# Altium footprint library PcbLib1.PcbLib: 264 footprints (part 13 of 17)
Each footprint in its own frame and in the unit in brackets; x right, y up, seen from the top. Pads: shape width x height; smd on the part's side, far side on the other; paste and mask are expansions set on the pad; w line width, h text height; cw(c..) or ccw(c..) is an arc to the next point about the centre after c.
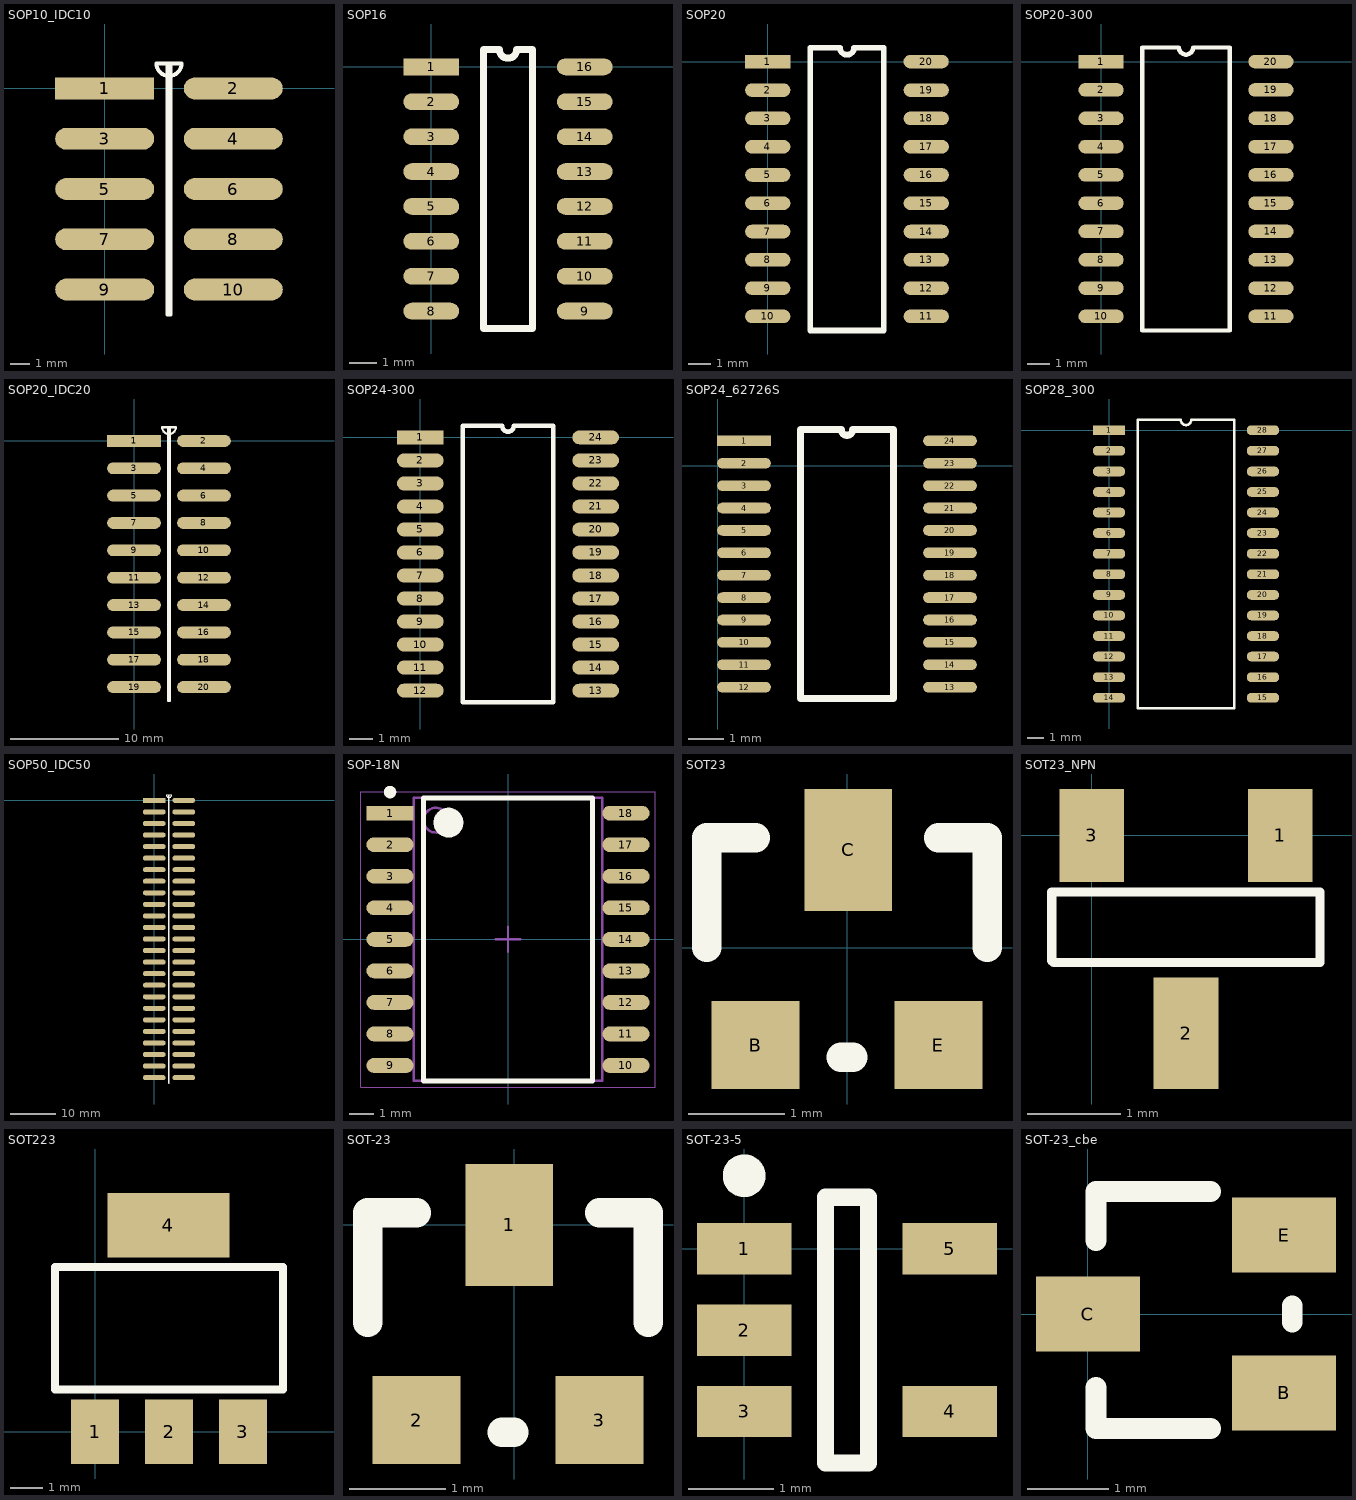
[diagram p12: the footprints below, top view; thin cyan lines are the x and y axes]

## SOP10_IDC10 [mm]
pads (10):
  rect 5x1.1 smd: 1(0,0)
  oval 5x1.1 smd: 2(6.5,0) 3(0,-2.54) 4(6.5,-2.54) 5(0,-5.08) 6(6.5,-5.08) 7(0,-7.62) 8(6.5,-7.62) 9(0,-10.16) 10(6.5,-10.16)
Top Overlay:
  lines w0.2: 2.615,1.27 ccw(c3.25,1.27) 3.885,1.27 3.165,1.27 3.165,-11.43 3.335,-11.43 3.335,1.27 2.615,1.27

## SOP16 [mil]
pads (16):
  rect 80x24 smd: 1(0,0)
  oval 80x24 smd: 2(0,-50) 3(0,-100) 4(0,-150) 5(0,-200) 6(0,-250) 7(0,-300) 8(0,-350) 9(220,-350) 10(220,-300) 11(220,-250) 12(220,-200) 13(220,-150) 14(220,-100) 15(220,-50) 16(220,0)
Top Overlay:
  lines w10: 75,-375 145,-375 145,25 122.5,25 cw(c110,25) 97.5,25 75,25 75,-375

## SOP20 [mil]
pads (20):
  rect 80x24 smd: 1(0,0)
  oval 80x24 smd: 2(0,-50) 3(0,-100) 4(0,-150) 5(0,-200) 6(0,-250) 7(0,-300) 8(0,-350) 9(0,-400) 10(0,-450) 11(280,-450) 12(280,-400) 13(280,-350) 14(280,-300) 15(280,-250) 16(280,-200) 17(280,-150) 18(280,-100) 19(280,-50) 20(279.92,0.39)
Top Overlay:
  lines w10: 75,-475 75,25 127.5,25 ccw(c140,25) 152.5,25 205,25 205,-475 75,-475

## SOP20-300 [mil]
pads (20):
  rect 80x24 smd: 1(0,0)
  oval 80x24 smd: 2(0,-50) 3(0,-100) 4(0,-150) 5(0,-200) 6(0,-250) 7(0,-300) 8(0,-350) 9(0,-400) 10(0,-450) 11(300,-450) 12(300,-400) 13(300,-350) 14(300,-300) 15(300,-250) 16(300,-200) 17(300,-150) 18(300,-100) 19(300,-50) 20(300,0)
Top Overlay:
  lines w7.87: 72.87,-475 72.87,25 137.5,25 ccw(c150,25) 162.5,25 227.13,25 227.13,-475 72.87,-475

## SOP20_IDC20 [mm]
pads (20):
  rect 5x1.1 smd: 1(0,0)
  oval 5x1.1 smd: 2(6.5,0) 3(0,-2.54) 4(6.5,-2.54) 5(0,-5.08) 6(6.5,-5.08) 7(0,-7.62) 8(6.5,-7.62) 9(0,-10.16) 10(6.5,-10.16) 11(0,-12.7) 12(6.5,-12.7) 13(0,-15.24) 14(6.5,-15.24) 15(0,-17.78) 16(6.5,-17.78) 17(0,-20.32) 18(6.5,-20.32) 19(0,-22.86) 20(6.5,-22.86)
Top Overlay:
  lines w0.2: 2.615,1.27 ccw(c3.25,1.27) 3.885,1.27 3.165,1.27 3.165,-24.13 3.335,-24.13 3.335,1.27 2.615,1.27

## SOP24-300 [mm]
pads (24):
  rect 2.032x0.6 smd: 1(0,0)
  oval 2.032x0.6 smd: 2(0,-1) 3(0,-2) 4(0,-3) 5(0,-4) 6(0,-5) 7(0,-6) 8(0,-7) 9(0,-8) 10(0,-9) 11(0,-10) 12(0,-11) 13(7.62,-11) 14(7.62,-10) 15(7.62,-9) 16(7.62,-8) 17(7.62,-7) 18(7.62,-6) 19(7.62,-5) 20(7.62,-4) 21(7.62,-3) 22(7.62,-2) 23(7.62,-1) 24(7.62,0)
Top Overlay:
  lines w0.2: 1.851,-11.5 1.851,0.5 3.56,0.5 ccw(c3.81,0.5) 4.06,0.5 5.769,0.5 5.769,-11.5 1.851,-11.5

## SOP24_62726S [mil]
pads (24):
  rect 60x12 smd: 1(29.13,27.95)
  oval 60x12 smd: 2(29.13,2.95) 3(29.13,-22.05) 4(29.13,-47.05) 5(29.13,-72.05) 6(29.13,-97.05) 7(29.13,-122.05) 8(29.13,-147.05) 9(29.13,-172.05) 10(29.13,-197.05) 11(29.13,-222.05) 12(29.13,-247.05) 13(259.13,-247.05) 14(259.13,-222.05) 15(259.13,-197.05) 16(259.13,-172.05) 17(259.13,-147.05) 18(259.13,-122.05) 19(259.13,-97.05) 20(259.13,-72.05) 21(259.13,-47.05) 22(259.13,-22.05) 23(259.13,2.95) 24(259.13,27.95)
Top Overlay:
  lines w7.87: 92.01,-259.55 92.01,40.45 137.88,40.45 ccw(c144.13,40.45) 150.38,40.45 196.26,40.45 196.26,-259.55 92.01,-259.55

## SOP28_300 [mm]
pads (28):
  rect 2x0.61 smd: 1(0,0)
  oval 2x0.61 smd: 2(0,-1.27) 3(0,-2.54) 4(0,-3.81) 5(0,-5.08) 6(0,-6.35) 7(0,-7.62) 8(0,-8.89) 9(0,-10.16) 10(0,-11.43) 11(0,-12.7) 12(0,-13.97) 13(0,-15.24) 14(0,-16.51) 15(9.5,-16.51) 16(9.5,-15.24) 17(9.5,-13.97) 18(9.5,-12.7) 19(9.5,-11.43) 20(9.5,-10.16) 21(9.5,-8.89) 22(9.5,-7.62) 23(9.5,-6.35) 24(9.5,-5.08) 25(9.5,-3.81) 26(9.5,-2.54) 27(9.5,-1.27) 28(9.5,0)
Top Overlay:
  lines w0.15: 1.785,-17.145 7.715,-17.145 7.715,0.635 5.067,0.635 cw(c4.75,0.635) 4.432,0.635 1.785,0.635 1.785,-17.145

## SOP50_IDC50 [mm]
pads (50):
  rect 5x1.1 smd: 1(0,0)
  oval 5x1.1 smd: 2(6.5,0) 3(0,-2.54) 4(6.5,-2.54) 5(0,-5.08) 6(6.5,-5.08) 7(0,-7.62) 8(6.5,-7.62) 9(0,-10.16) 10(6.5,-10.16) 11(0,-12.7) 12(6.5,-12.7) 13(0,-15.24) 14(6.5,-15.24) 15(0,-17.78) 16(6.5,-17.78) 17(0,-20.32) 18(6.5,-20.32) 19(0,-22.86) 20(6.5,-22.86) 21(0,-25.4) 22(6.5,-25.4) 23(0,-27.94) 24(6.5,-27.94) 25(0,-30.48) 26(6.5,-30.48) 27(0,-33.02) 28(6.5,-33.02) 29(0,-35.56) 30(6.5,-35.56) 31(0,-38.1) 32(6.5,-38.1) 33(0,-40.64) 34(6.5,-40.64) 35(0,-43.18) 36(6.5,-43.18) 37(0,-45.72) 38(6.5,-45.72) 39(0,-48.26) 40(6.5,-48.26) 41(0,-50.8) 42(6.5,-50.8) 43(0,-53.34) 44(6.5,-53.34) 45(0,-55.88) 46(6.5,-55.88) 47(0,-58.42) 48(6.5,-58.42) 49(0,-60.96) 50(6.5,-60.96)
Top Overlay:
  lines w0.2: 2.615,1.27 ccw(c3.25,1.27) 3.885,1.27 3.165,1.27 3.165,-62.23 3.335,-62.23 3.335,1.27 2.615,1.27

## SOP-18N [mm] "SOIC, 18-Leads, Body 11.55x7.50mm, Pitch 1.27mm, IPC Medium Density"
height 2.65
pads (18):
  rect 1.9x0.6 smd: 1(-4.75,5.08)
  oval 1.9x0.6 smd: 2(-4.75,3.81) 3(-4.75,2.54) 4(-4.75,1.27) 5(-4.75,0) 6(-4.75,-1.27) 7(-4.75,-2.54) 8(-4.75,-3.81) 9(-4.75,-5.08) 10(4.75,-5.08) 11(4.75,-3.81) 12(4.75,-2.54) 13(4.75,-1.27) 14(4.75,0) 15(4.75,1.27) 16(4.75,2.54) 17(4.75,3.81) 18(4.75,5.08)
Top Overlay:
  circle w0.6: c-2.4,4.7 r0.3
  circle w0.25: c-4.75,5.93 r0.125
  lines w0.2: -3.4,-5.7 3.4,-5.7 3.4,5.7 -3.4,5.7 -3.4,-5.7
Mechanical 13:
  circle w0.1: c-2.9,4.8 r0.5
  lines w0.1: -3.8,-5.7 3.8,-5.7 3.8,5.7 -3.8,5.7 -3.8,-5.7
Mechanical 15:
  lines w0.05: -5.925,-5.95 5.925,-5.95 5.925,5.95 -5.925,5.95 -5.925,-5.95
  lines w0.1: -0.5,0 0.5,0 ; 0,-0.5 0,0.5
3D body: height 2.65, standoff 0.1, extent -3.8,-5.7 3.8,5.7

## SOT23 [mil]
pads (3):
  rect 36x36 smd: B(-37.5,-40) E(37.5,-40)
  rect 36x50 smd: C(0.5,40)
Top Overlay:
  lines w12: -57.5,0 -57.5,45 -37.5,45 ; -2.5,-45 2.5,-45 ; 37.5,45 57.5,45 57.5,0

## SOT23_NPN [mm]
pads (3):
  rect 0.7x1 smd: 1(2.032,0) 3(0,0)
  rect 0.7x1.2 smd: 2(1.016,-2.134)
Top Overlay:
  lines w0.1: -0.43,-1.35 -0.43,-0.61 2.46,-0.61 2.46,-1.37 -0.41,-1.37

## SOT223 [mil]
pads (4):
  rect 59x79 smd: 1(0,0) 2(90.55,0) 3(181.1,0)
  rect 150x79 smd: 4(89.88,253.54)
Top Overlay:
  lines w10: -49.45,52 -49.45,202 230.55,202 230.55,52 -49.45,52

## SOT-23 [mil]
pads (3):
  rect 36x50 smd: 1(-2,0)
  rect 36x36 smd: 2(-40,-80) 3(35,-80)
Top Overlay:
  lines w12: -60,-40 -60,5 -40,5 ; -5,-85 0,-85 ; 35,5 55,5 55,-40

## SOT-23-5 [mm]
pads (5):
  rect 1.1x0.6 smd: 1(0,0) 2(0,-0.95) 3(0,-1.9) 4(2.4,-1.9) 5(2.4,0)
Top Overlay:
  circle w0.25: c0,0.85 r0.125
  lines w0.2: 0.95,-2.5 1.45,-2.5 1.45,0.6 0.95,0.6 0.95,-2.5

## SOT-23_cbe [mil]
pads (3):
  rect 50x36 smd: B(94.49,-38) C(0,0) E(94.49,38)
Top Overlay:
  lines w10: 3.94,-35.43 3.94,-55.12 59.06,-55.12 ; 3.94,35.43 3.94,59.06 59.06,59.06 ; 98.43,-3.94 98.43,3.94